# EAGLE library part 74LVC1G3157GW,125 (library FaceTrackingDrone)
Not proven.
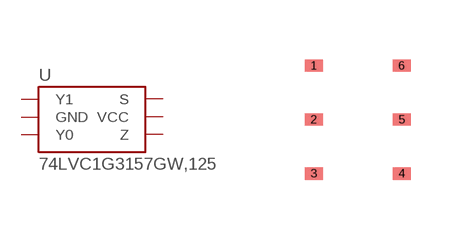
[diagram p3: symbol with the pads of SOT363; footprint SOT363]

Designator prefix -

## 74LVC1G3157GW,125 (AVAILABILITY: Unavailable; DESCRIPTION: 74LVC1G3157 - 2-channel analog multiplexer/demultiplexer; MF: Nexperia USA; MP: 74LVC1G3157GW,125; PACKAGE: SOT-363 Nexperia; PRICE: None)  [SOT363]
1  Y1
2  GND  pwr
3  Y0
4  Z
5  VCC  pwr
6  S

## Footprint SOT363 (pad centres in mm)
smd 0.45 x 0.3: 1 0,2.7; 2 0,1.35; 3 0,0; 4 2.2,0; 5 2.2,1.35; 6 2.2,2.7